# Altium footprint library 05E_Connector.PcbLib: 11 footprints
Each footprint in its own frame and in the unit in brackets; x right, y up, seen from the top. Pads: shape width x height; smd on the part's side, far side on the other; paste and mask are expansions set on the pad; w line width, h text height; cw(c..) or ccw(c..) is an arc to the next point about the centre after c.
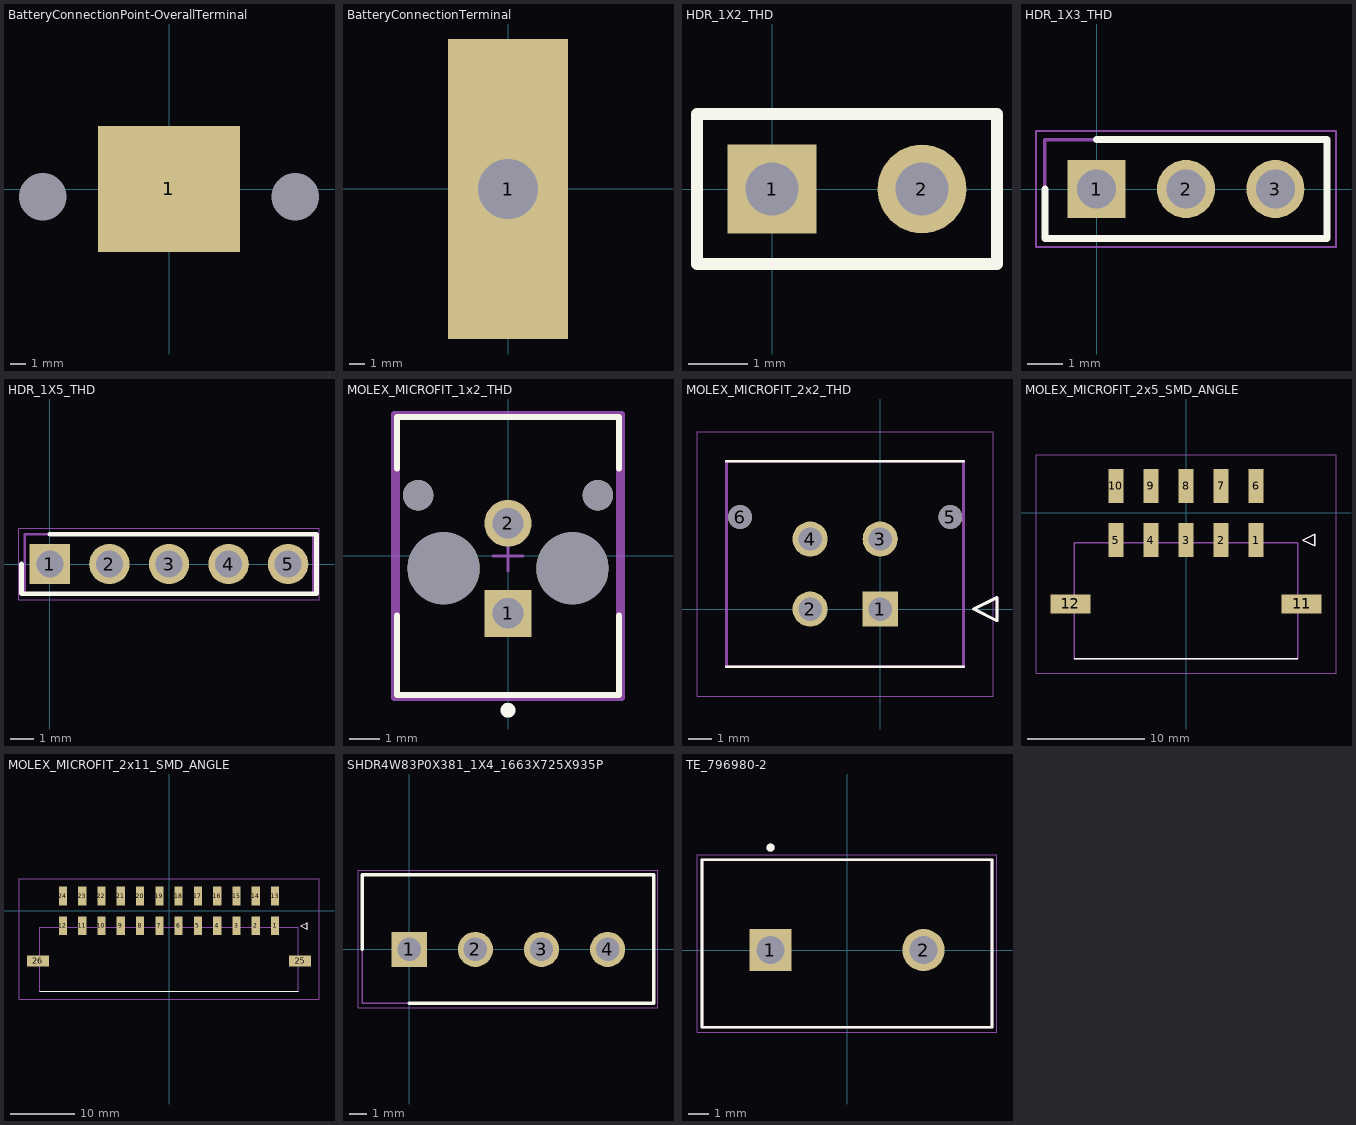
[diagram p0: the footprints below, top view; thin cyan lines are the x and y axes]

## BatteryConnectionPoint-OverallTerminal [mm]
pads (3):
  round 0 hole 3 unplated mask+0: 0(-8,-0.5) 0(8,-0.5)
  rect 9x8 smd: 1(0,0)

## BatteryConnectionTerminal [mm]
pads (1):
  rect 8x20 / inner rect 8x20 / far side round 5 hole 4: 1(0,0)

## HDR_1X2_THD [mm] "Connector; Header; 2 Position"
pads (2):
  rect 1.5x1.5 hole 0.9: 1(0,0)
  round 1.5 hole 0.9: 2(2.54,0)
Top Overlay:
  lines w0.2: -1.27,-1.27 -1.27,1.27 3.81,1.27 3.81,-1.27 -1.27,-1.27

## HDR_1X3_THD [mm]
pads (3):
  rect 1.65x1.65 / inner round 1.65 / far side rect 1.65x1.65 hole 1.1: 1(0,0)
  round 1.65 hole 1.1: 2(2.54,0) 3(5.08,0)
Top Overlay:
  lines w0.2: -1.47,0 -1.47,-1.4 6.55,-1.4 6.55,1.4 0,1.4
Top Courtyard:
  lines w0.1: -1.47,-1.4 6.55,-1.4 6.55,1.4 -1.47,1.4 -1.47,-1.4
Bottom Assembly:
  lines w0.05: -1.72,-1.65 6.8,-1.65 6.8,1.65 -1.72,1.65 -1.72,-1.65

## HDR_1X5_THD [mm]
pads (5):
  rect 1.725x1.725 / inner round 1.725 / far side rect 1.725x1.725 hole 1.15: 1(0,0)
  round 1.725 hole 1.15: 2(2.54,0) 3(5.08,0) 4(7.62,0) 5(10.16,0)
Top Overlay:
  lines w0.2: -1.212,0 -1.212,-1.27 11.373,-1.27 11.373,1.27 0,1.27
Top Courtyard:
  lines w0.1: -1.067,-1.27 -1.067,1.27 11.227,1.27 11.227,-1.27 -1.067,-1.27
Bottom Assembly:
  lines w0.05: -1.317,-1.52 -1.317,1.52 11.477,1.52 11.477,-1.52 -1.317,-1.52
3D body "87224-5.stp": height 10.37, standoff -3.17, extent -1.067,-1.168 11.227,1.168

## MOLEX_MICROFIT_1x2_THD [mm]
pads (6):
  rect 1.57x1.57 hole 1.02 paste-2539.97 mask+0: 1(0,-1.915)
  round 1.57 hole 1.02 paste-2539.97 mask+0: 2(0,1.085)
  round 1.02 hole 1.02 unplated paste-2539.97 mask+0: ""(-3,2.025) ""(3,2.025)
  round 2.41 hole 2.41 unplated paste-2539.97 mask+0: ""(-2.15,-0.415) ""(2.15,-0.415)
Top Overlay:
  circle w0.25: c0,-5.15 r0.125
  lines w0.2: -3.7,-1.995 -3.7,-4.635 3.7,-4.635 3.7,-1.995 ; -3.7,2.91 -3.7,4.635 3.7,4.635 3.7,2.91
Top Assembly:
  lines w0.2: -3.8,-4.735 3.8,-4.735 3.8,4.735 -3.8,4.735 -3.8,-4.735
  text ".Designator" at 0,-0.001 h1
Top 3D Body:
  lines w0.2: -3.7,-4.635 3.7,-4.635 3.7,4.635 -3.7,4.635 -3.7,-4.635
Top Courtyard:
  lines w0.2: -3.8,-4.735 3.8,-4.735 3.8,4.735 -3.8,4.735 -3.8,-4.735
Top Component Center:
  lines w0.1: -0.5,0 0.5,0 ; 0,-0.5 0,0.5
3D body "Conn_Molex_43045-0224_eec.STEP": height 0.25, standoff 0, extent -3.8,-4.735 3.8,4.735

## MOLEX_MICROFIT_2x2_THD [mm]
pads (6):
  rect 1.505x1.505 / inner round 1.505 / far side rect 1.505x1.505 hole 1.005 mask+0.076: 1(0,0)
  round 1.505 hole 1.005 mask+0.076: 2(-3,0) 3(0,3) 4(-3,3)
  round 1.02 hole 1.02 unplated mask+0.076: 5(3,3.94) 6(-6,3.94)
Top Overlay:
  lines w0.127: -6.575,-2.47 3.575,-2.47 ; -6.575,6.33 3.575,6.33 ; 4,0 5,-0.5 5,0.5 4,0
Top Courtyard:
  lines w0.127: -6.575,-2.47 3.575,-2.47 3.575,6.33 -6.575,6.33 -6.575,-2.47 ; 4,0 5,-0.5 5,0.5 4,0
Bottom Assembly:
  lines w0.05: -7.845,-3.74 4.845,-3.74 4.845,7.6 -7.845,7.6 -7.845,-3.74
3D body "44914-0401.stp": height 9.79, standoff -3.3, extent -6.525,-2.45 3.625,6.35

## MOLEX_MICROFIT_2x5_SMD_ANGLE [mm] "43045-10YY"
pads (12):
  rect 1.27x2.92 smd: 1(6,-2.315) 2(3,-2.315) 3(0,-2.315) 4(-3,-2.315) 5(-6,-2.315) 6(6,2.315) 7(3,2.315) 8(0,2.315) 9(-3,2.315) 10(-6,2.315)
  rect 3.43x1.65 smd: 11(9.895,-7.785) 12(-9.895,-7.785)
Top Overlay:
  lines w0.127: -9.575,-12.455 9.575,-12.455 ; 10,-2.315 11,-2.815 11,-1.815 10,-2.315
Top 3D Body:
  lines w0.127: -9.575,-12.455 9.575,-12.455 9.575,-2.545 -9.575,-2.545 -9.575,-12.455 ; 10,-2.315 11,-2.815 11,-1.815 10,-2.315
Top Courtyard:
  lines w0.05: -12.829,-13.725 12.829,-13.725 12.829,4.994 -12.829,4.994 -12.829,-13.725
3D body "43045-1011.stp": height 8.77, standoff 0, extent -11.325,-12.065 11.325,3.333

## MOLEX_MICROFIT_2x11_SMD_ANGLE [mm] "43045-24XX"
pads (26):
  rect 1.27x2.92 smd: 1(16.5,-2.315) 2(13.5,-2.315) 3(10.5,-2.315) 4(7.5,-2.315) 5(4.5,-2.315) 6(1.5,-2.315) 7(-1.5,-2.315) 8(-4.5,-2.315) 9(-7.5,-2.315) 10(-10.5,-2.315) 11(-13.5,-2.315) 12(-16.5,-2.315) 13(16.5,2.315) 14(13.5,2.315) 15(10.5,2.315) 16(7.5,2.315) 17(4.5,2.315) 18(1.5,2.315) 19(-1.5,2.315) 20(-4.5,2.315) 21(-7.5,2.315) 22(-10.5,2.315) 23(-13.5,2.315) 24(-16.5,2.315)
  rect 3.43x1.65 smd: 25(20.395,-7.785) 26(-20.395,-7.785)
Top Overlay:
  lines w0.127: -20.075,-12.455 20.075,-12.455 ; 20.5,-2.315 21.5,-2.815 21.5,-1.815 20.5,-2.315
Top 3D Body:
  lines w0.127: -20.075,-12.455 20.075,-12.455 20.075,-2.545 -20.075,-2.545 -20.075,-12.455 ; 20.5,-2.315 21.5,-2.815 21.5,-1.815 20.5,-2.315
Top Courtyard:
  lines w0.05: -23.329,-13.725 23.329,-13.725 23.329,4.994 -23.329,4.994 -23.329,-13.725
3D body "43045-2410.stp": height 8.77, standoff 0, extent -21.825,-12.065 21.825,3.333

## SHDR4W83P0X381_1X4_1663X725X935P [mm]
pads (4):
  rect 2.025x2.025 / inner round 2.025 / far side rect 2.025x2.025 hole 1.35: 1(0,0)
  round 2.025 hole 1.35: 2(3.81,0) 3(7.62,0) 4(11.43,0)
Top Overlay:
  lines w0.2: -2.7,0 -2.7,4.3 14.08,4.3 14.08,-3.1 0,-3.1
Top Courtyard:
  lines w0.1: -2.7,-3.1 14.08,-3.1 14.08,4.3 -2.7,4.3 -2.7,-3.1
Bottom Assembly:
  lines w0.05: -2.95,-3.35 14.33,-3.35 14.33,4.55 -2.95,4.55 -2.95,-3.35

## TE_796980-2 [mm]
pads (2):
  rect 2.1x2.1 hole 1.4: 1(-3.81,0)
  round 2.1 hole 1.4: 2(3.81,0)
Top Overlay:
  circle w0.2: c-3.81,5.1 r0.1
  lines w0.127: -7.22,-3.85 7.22,-3.85 7.22,4.5 -7.22,4.5 -7.22,-3.85
Top 3D Body:
  circle w0.2: c-3.81,5.1 r0.1
  lines w0.127: -7.22,-3.85 7.22,-3.85 7.22,4.5 -7.22,4.5 -7.22,-3.85
Top Courtyard:
  lines w0.05: -7.47,-4.1 7.47,-4.1 7.47,4.75 -7.47,4.75 -7.47,-4.1